# Altium footprint library HRS4(H)_Relay.PcbLib: 1 footprints
Each footprint in its own frame and in the unit in brackets; x right, y up, seen from the top. Pads: shape width x height; smd on the part's side, far side on the other; paste and mask are expansions set on the pad; w line width, h text height; cw(c..) or ccw(c..) is an arc to the next point about the centre after c.
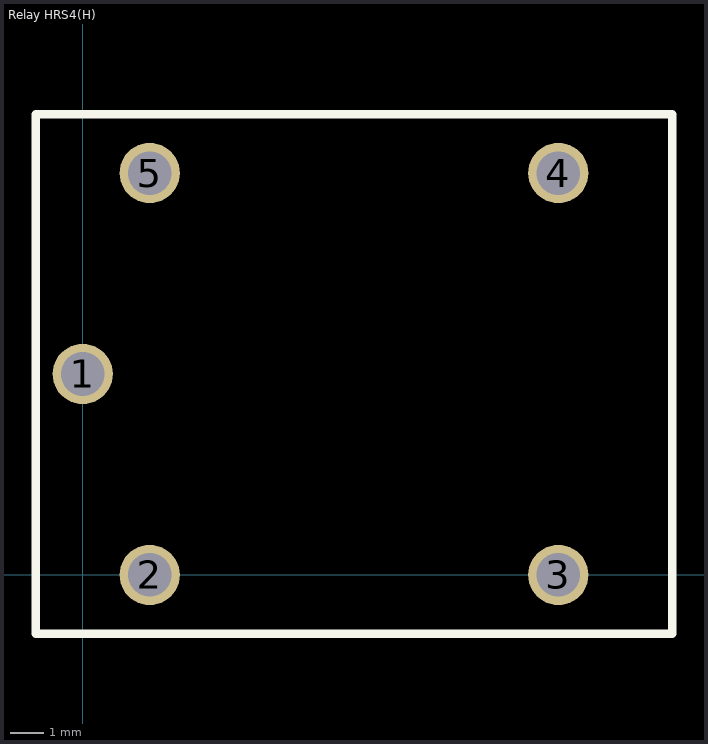
[diagram p0: the footprint, top view; thin cyan lines are the x and y axes]

## Relay HRS4(H) [mm]
pads (5):
  round 1.8 hole 1.3: 1(0,6) 2(2,0) 3(14.2,0) 4(14.2,12) 5(2,12)
Top Overlay:
  lines w0.254: -1.4,-1.75 17.6,-1.75 17.6,13.75 -1.4,13.75 -1.4,-1.75
3D body: height 4, standoff 0, extent 13.7,-0.499 14.7,0.5
3D body: height 4, standoff 0, extent 13.7,11.501 14.7,12.5
3D body: height 4, standoff 0, extent 1.5,-0.499 2.5,0.5
3D body: height 4, standoff 0, extent 1.5,11.501 2.5,12.5
3D body: height 4, standoff 0, extent -0.5,5.501 0.5,6.5
3D body: height 16, standoff 0, extent -1.399,-1.749 17.599,13.749